# Altium footprint library SOP127P600-4N.PcbLib: 1 footprints
Each footprint in its own frame and in the unit in brackets; x right, y up, seen from the top. Pads: shape width x height; smd on the part's side, far side on the other; paste and mask are expansions set on the pad; w line width, h text height; cw(c..) or ccw(c..) is an arc to the next point about the centre after c.
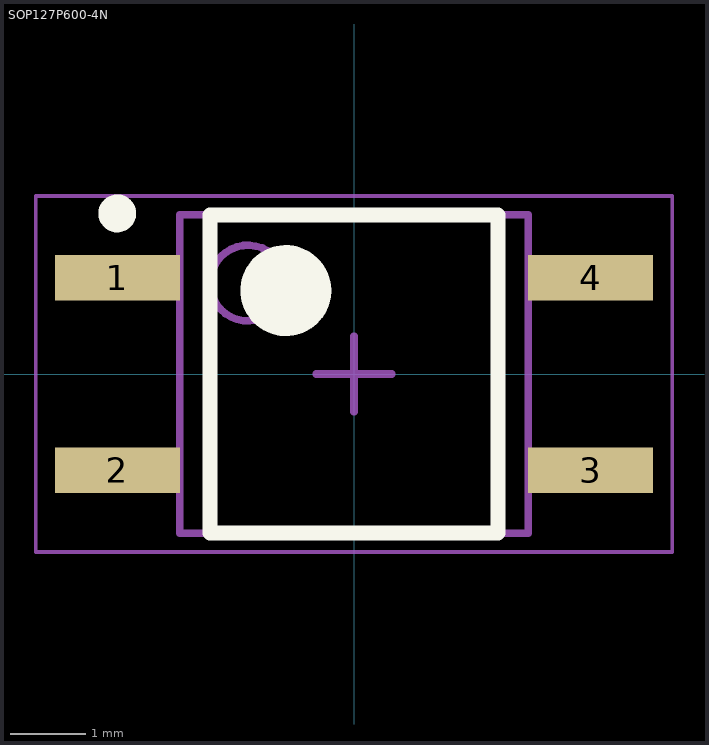
[diagram p0: the footprint, top view; thin cyan lines are the x and y axes]

## SOP127P600-4N [mm] "VOM617A, SOP-4 Mini Flat Pack"
height 2.4
pads (4):
  rect 1.65x0.6 smd: 1(-3.125,1.27) 2(-3.125,-1.27) 3(3.125,-1.27) 4(3.125,1.27)
Top Overlay:
  circle w0.6: c-0.9,1.1 r0.3
  circle w0.25: c-3.125,2.12 r0.125
  lines w0.2: -1.9,-2.1 1.9,-2.1 1.9,2.1 -1.9,2.1 -1.9,-2.1
Top Assembly:
  circle w0.1: c-1.4,1.2 r0.5
  lines w0.1: -2.3,-2.1 2.3,-2.1 2.3,2.1 -2.3,2.1 -2.3,-2.1
Top Courtyard:
  lines w0.05: -4.2,-2.35 4.2,-2.35 4.2,2.35 -4.2,2.35 -4.2,-2.35
  lines w0.1: -0.5,0 0.5,0 ; 0,-0.5 0,0.5
3D body "SOP127P600-8N.step": height 2.4, standoff 0, extent -3.375,-2.1 3.375,2.1